# EAGLE library part CON-MINI_USB-A (library diode-20CJQ030)
Various Mini-USB Type A Connectors
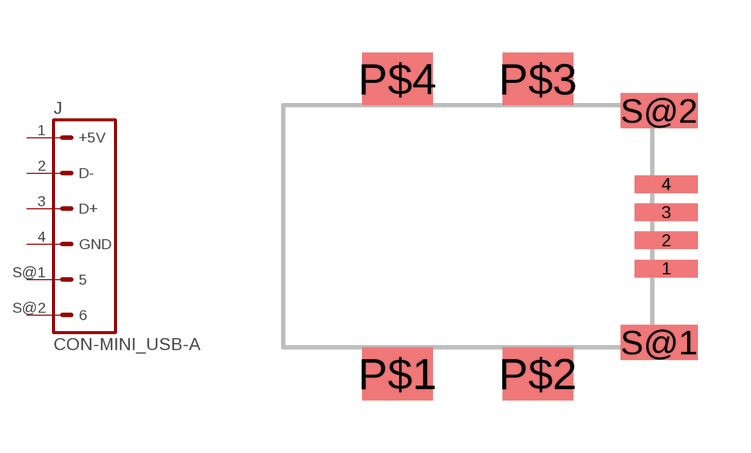
[diagram p124: symbol with the pads of 154-3100-MINI-USB-A; footprint 154-3100-MINI-USB-A]

Designator prefix J

## CON-MINI_USB-A-1  [154-3100-MINI-USB-A]
1  +5V  pas
2  D-  pas
3  D+  pas
4  GND  pas
S@1  5  pas
S@2  6  pas

## Footprint 154-3100-MINI-USB-A (pad centres in mm)
Kobiconn's 154-3100 Mini USB A Type Receptacle SPECIFICATIONS: Voltage rating: 30VAC(rms) Current rating: 1 Amp Contact resistance: 50m? Max. Insulation resistance: 100M? Min. Dielectric strength: 100VAC Min. Durability: 1500 cycles (for 4 pin) Mating force: 35N Max Unmating force:2.9N Min. Contacts: Phosphor Bronze Shell: Copper Alloy Receptacle Housing: LCP Black Plug Housing: PBT Nickel: in all area Contact Area: Gold 5?? over Nickel Solder Area:Tin-Lead over Nickel Shell: Tin-Lead over Nickel Please send any comments to: messi@users.sourceforge.net
smd 1.8 x 0.5: 1 10.9,2.25; 2 10.9,3.05; 3 10.9,3.85; 4 10.9,4.65
smd 2 x 1.5: P$1 3.25,-0.75; P$2 7.25,-0.75; P$3 7.25,7.65; P$4 3.25,7.65
smd 2.2 x 1: S@1 10.7,0.15; S@2 10.7,6.75